# EAGLE library part DRV8837CDSGR (library HBPMouse)
1A Low-Voltage H-Bridge Driver Source: Datasheet <http://www.ti.com/lit/gpn/drv8837c>
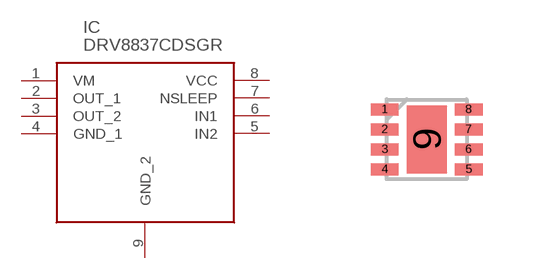
[diagram p1: symbol with the pads of SON50P200X200X80-9N; footprint SON50P200X200X80-9N]

Designator prefix IC

## DRV8837CDSGR (DESCRIPTION: 1A Low-Voltage H-Bridge Driver; HEIGHT: 0.8mm; MANUFACTURER_NAME: Texas Instruments; MANUFACTURER_PART_NUMBER: DRV8837CDSGR; MOUSER_PART_NUMBER: 595-DRV8837CDSGR; MOUSER_PRICE-STOCK: https://www.mouser.com/Search/Refine.aspx?Keyword=595-DRV8837CDSGR)  [SON50P200X200X80-9N]
1  VM
2  OUT_1
3  OUT_2
4  GND_1
5  IN2
6  IN1
7  NSLEEP
8  VCC
9  GND_2

## Footprint SON50P200X200X80-9N (pad centres in mm)
DRV8837CDSGR
smd 0.7 x 0.3: 1 -1.05,0.75; 2 -1.05,0.25; 3 -1.05,-0.25; 4 -1.05,-0.75; 5 1.05,-0.75; 6 1.05,-0.25; 7 1.05,0.25; 8 1.05,0.75
smd 1 x 1.7: 9 0,0